# Altium footprint library SMD-SOICxx 1.27mm.PcbLib: 14 footprints
Each footprint in its own frame and in the unit in brackets; x right, y up, seen from the top. Pads: shape width x height; smd on the part's side, far side on the other; paste and mask are expansions set on the pad; w line width, h text height; cw(c..) or ccw(c..) is an arc to the next point about the centre after c.
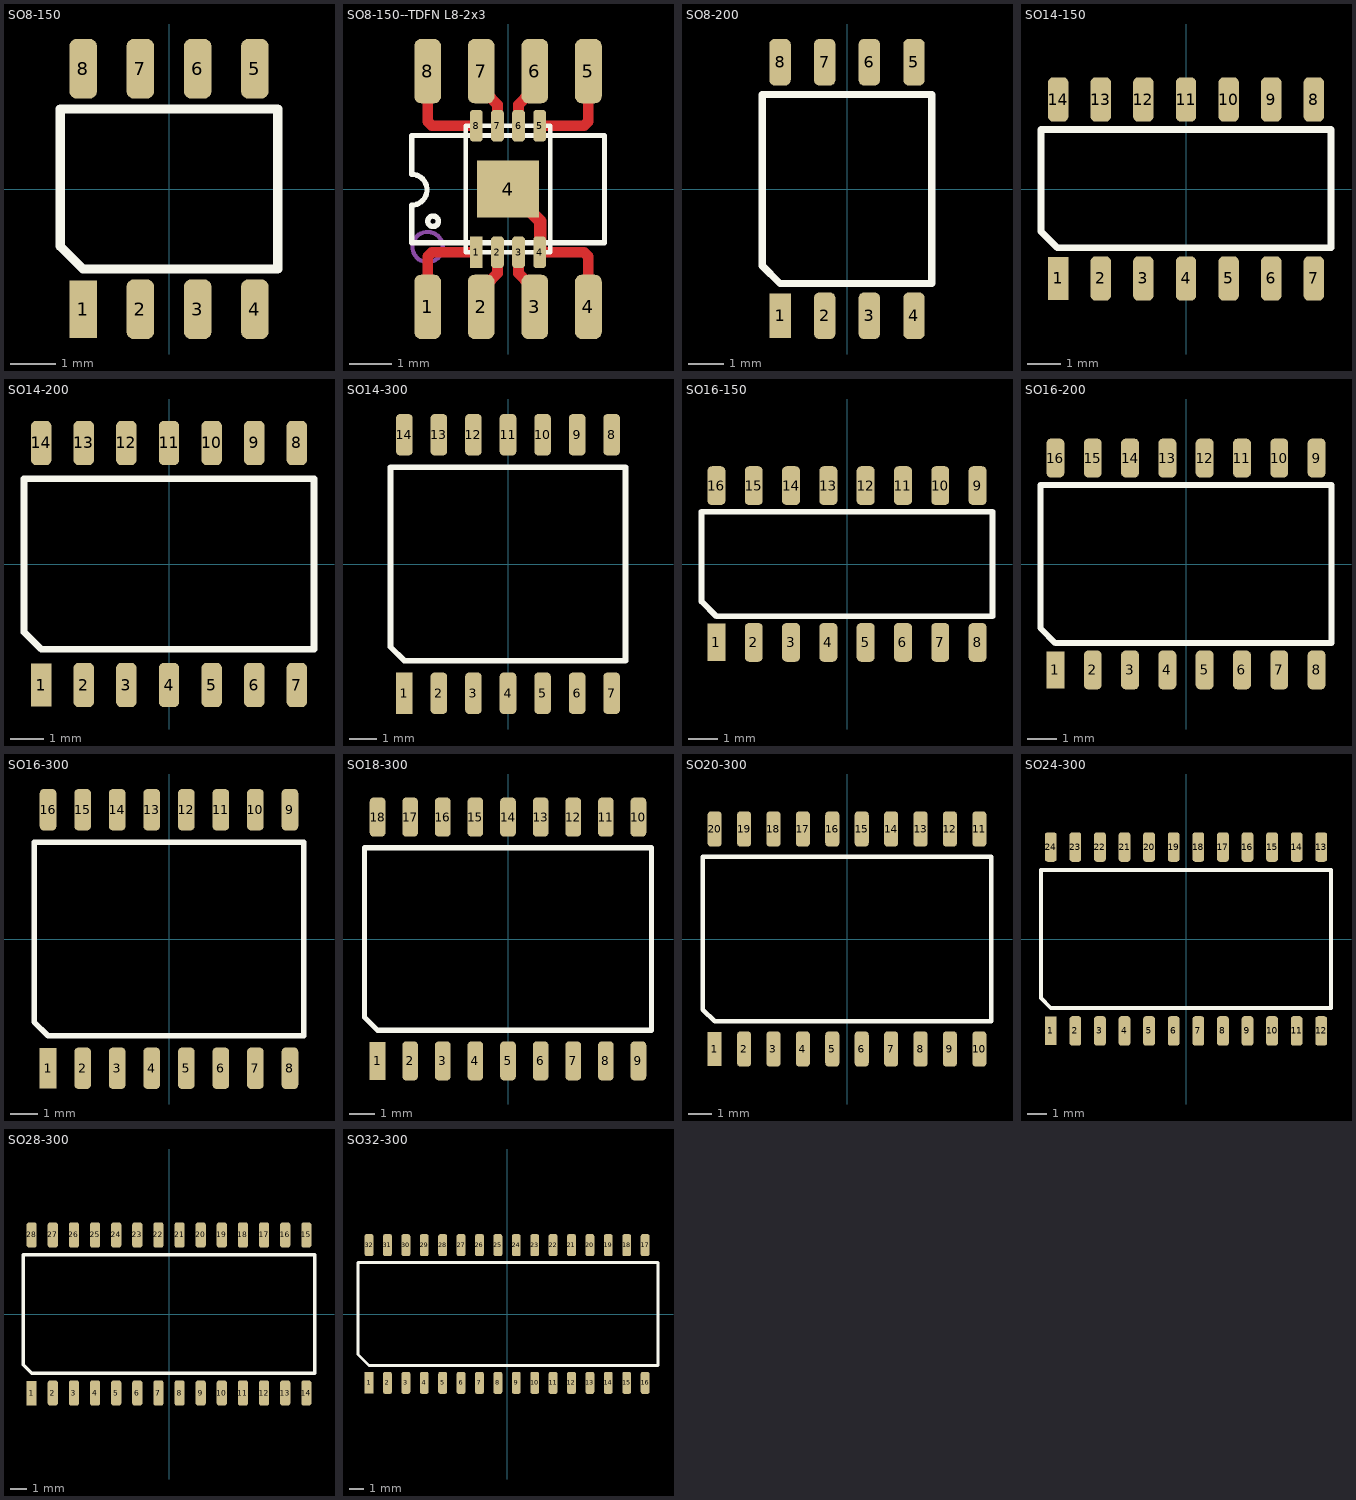
[diagram p0: the footprints below, top view; thin cyan lines are the x and y axes]

## SO8-150 [mil]
pads (8):
  rect 24x50 smd mask+4: 1(-75,-105)
  rrect50% 24x52 smd mask+4: 2(-25,-105) 3(25,-105) 4(75,-105) 5(75,105) 6(25,105) 7(-25,105) 8(-75,105)
Top Overlay:
  lines w8: -95.01,-49.99 -95.01,70 95,70 95,-70 -75,-70 -95.01,-49.99
3D body: height 67, standoff 0, extent -95.01,-122.01 94.99,121.99

## SO8-150--TDFN L8-2x3 [mm]
pads (17):
  rrect50% 0.635x1.524 smd: 1(-1.905,-2.794) 2(-0.635,-2.794) 3(0.635,-2.794) 4(1.905,-2.794) 5(1.905,2.794) 6(0.635,2.794) 7(-0.635,2.794) 8(-1.905,2.794)
  rect 0.3x0.75 smd: 1(-0.75,-1.5)
  rrect50% 0.3x0.75 smd: 2(-0.25,-1.5) 3(0.25,-1.5) 4(0.75,-1.5) 5(0.75,1.5) 6(0.25,1.5) 7(-0.25,1.5) 8(-0.75,1.5)
  rect 1.46x1.36 smd: 4(0,0)
Top Layer:
  lines w0.254: -1.9,-2.2 -1.9,-1.6 -1.8,-1.5 ; -1.9,2.2 -1.9,1.6 -1.8,1.5 ; -1.75,-1.5 -0.75,-1.5 ; -1.75,1.5 -0.75,1.5 ; -0.5,-2.25 -0.25,-2 -0.25,-1.5 ; -0.5,2.25 -0.25,2 -0.25,1.5 ; 0.25,-1.5 0.25,-2 0.5,-2.25 ; 0.25,1.5 0.25,2 0.5,2.25 ; 0.75,-1.5 1.754,-1.5 1.8,-1.5 1.9,-1.6 1.9,-2.2 ; 0.75,1.5 1.754,1.5 1.8,1.5 1.9,1.6 1.9,2.2
  lines w0.3: 0,0 0.762,-0.762 0.762,-1.5
Top Overlay:
  circle w0.127: c-1.776,-0.765 r0.125
  lines w0.1: -1,-1.5 1,-1.5 ; -1,-1.5 -1,1.5 1,1.5 1,-1.5 ; -1,-1.5 1,-1.5
  lines w0.127: -2.286,0.349 cw(c-2.286,-0.017) -2.286,-0.384 -2.286,-1.273 2.286,-1.273 2.286,1.267 -2.286,1.267 -2.286,0.378
Mechanical 13:
  circle w0.1: c-1.905,-1.375 r0.359
3D body: height 0.76, standoff 0, extent -0.75,-1.25 -0.551,-1.05
3D body: height 0.76, standoff 0, extent -1,-1.5 1,1.5
3D body: height 1.7, standoff 0, extent -2.413,-3.099 2.413,3.099

## SO8-200 [mil]
pads (8):
  rect 24x50 smd mask+4: 1(-75,-142)
  rrect50% 24x52 smd mask+4: 2(-25,-142) 3(25,-142) 4(75,-142) 5(75,142) 6(25,142) 7(-25,142) 8(-75,142)
Top Overlay:
  lines w8: -95,-86 -95,106 95,106 95,-106 -75,-106 -95,-86
3D body: height 67, standoff 0, extent -95,-161 95,161

## SO14-150 [mil]
pads (14):
  rect 24x50 smd mask+4: 1(-150,-105)
  rrect50% 24x52 smd mask+4: 2(-100,-105) 3(-50,-105) 4(0,-105) 5(50,-105) 6(100,-105) 7(150,-105) 8(150,105) 9(100,105) 10(50,105) 11(0,105) 12(-50,105) 13(-100,105) 14(-150,105)
Top Overlay:
  lines w8: -170,-50 -170,70 170,70 170,-68.9 -151.1,-68.9 -170,-50
3D body: height 67, standoff 0, extent -170,-122 170,122

## SO14-200 [mil]
pads (14):
  rect 24x50 smd mask+4: 1(-150,-142)
  rrect50% 24x52 smd mask+4: 2(-100,-142) 3(-50,-142) 4(0,-142) 5(50,-142) 6(100,-142) 7(150,-142) 8(150,142) 9(100,142) 10(50,142) 11(0,142) 12(-50,142) 13(-100,142) 14(-150,142)
Top Overlay:
  lines w8: -170,-80 -150,-100 170,-100 170,100 -170,100 -170,-80
3D body: height 67, standoff 0, extent -170.01,-161 169.99,160.99

## SO14-300 [mil]
pads (14):
  rect 24x60 smd: 1(-150,-187)
  rrect50% 24x60 smd: 2(-100,-187) 3(-50,-187) 4(0,-187) 5(50,-187) 6(100,-187) 7(150,-187) 8(150,187) 9(100,187) 10(50,187) 11(0,187) 12(-50,187) 13(-100,187) 14(-150,187)
Top Overlay:
  lines w8: -170,-120 -150,-140 170,-140 170,140 -170,140 -170,-120
3D body: height 67, standoff 0, extent -170,-209.5 170,209.5

## SO16-150 [mil]
pads (16):
  rect 24x50 smd mask+4: 1(-175,-105)
  rrect50% 24x52 smd mask+4: 2(-125,-105) 3(-75,-105) 4(-25,-105) 5(25,-105) 6(75,-105) 7(125,-105) 8(175,-105) 9(175,105) 10(125,105) 11(75,105) 12(25,105) 13(-25,105) 14(-75,105) 15(-125,105) 16(-175,105)
Top Overlay:
  lines w8: -195,-50 -175,-70 195,-70 195,70 -195,70 -195,-50
3D body: height 67, standoff 0, extent -195,-122 195,122

## SO16-200 [mil]
pads (16):
  rect 24x50 smd mask+4: 1(-175,-142)
  rrect50% 24x52 smd mask+4: 2(-125,-142) 3(-75,-142) 4(-25,-142) 5(25,-142) 6(75,-142) 7(125,-142) 8(175,-142) 9(175,142) 10(125,142) 11(75,142) 12(25,142) 13(-25,142) 14(-75,142) 15(-125,142) 16(-175,142)
Top Overlay:
  lines w8: -195,-86 -175,-106 195,-106 195,106 -195,106 -195,-86
3D body: height 67, standoff 0, extent -195,-161 195,161

## SO16-300 [mil]
pads (16):
  rect 24x58 smd mask+4: 1(-175,-187)
  rrect50% 24x60 smd mask+4: 2(-125,-187) 3(-75,-187) 4(-25,-187) 5(25,-187) 6(75,-187) 7(125,-187) 8(175,-187) 9(175,187) 10(125,187) 11(75,187) 12(25,187) 13(-25,187) 14(-75,187) 15(-125,187) 16(-175,187)
Top Overlay:
  lines w8: -195,-120 -175,-140 195,-140 195,140 -195,140 -195,-120
3D body: height 67, standoff 0, extent -195,-209.5 195,209.5

## SO18-300 [mil]
pads (18):
  rect 24x58 smd mask+4: 1(-200,-187)
  rrect50% 24x60 smd mask+4: 2(-150,-187) 3(-100,-187) 4(-50,-187) 5(0,-187) 6(50,-187) 7(100,-187) 8(150,-187) 9(200,-187) 10(200,187) 11(150,187) 12(100,187) 13(50,187) 14(0,187) 15(-50,187) 16(-100,187) 17(-150,187) 18(-200,187)
Top Overlay:
  lines w8: -220,-120 -200,-140 220,-140 220,140 -220,140 -220,-120
3D body: height 67, standoff 0, extent -220,-209.5 220,209.5

## SO20-300 [mil]
pads (20):
  rect 24x58 smd mask+4: 1(-225,-187)
  rrect50% 24x60 smd mask+4: 2(-175,-187) 3(-125,-187) 4(-75,-187) 5(-25,-187) 6(25,-187) 7(75,-187) 8(125,-187) 9(175,-187) 10(225,-187) 11(225,187) 12(175,187) 13(125,187) 14(75,187) 15(25,187) 16(-25,187) 17(-75,187) 18(-125,187) 19(-175,187) 20(-225,187)
Top Overlay:
  lines w8: -245,-120 -245,140 245,140 245,-140 -225,-140 -245,-120
3D body: height 67, standoff 0, extent -245,-209.5 245,209.5

## SO24-300 [mil]
pads (24):
  rect 24x58 smd mask+4: 1(-275,-187)
  rrect50% 24x60 smd mask+4: 2(-225,-187) 3(-175,-187) 4(-125,-187) 5(-75,-187) 6(-25,-187) 7(25,-187) 8(75,-187) 9(125,-187) 10(175,-187) 11(225,-187) 12(275,-187) 13(275,187) 14(225,187) 15(175,187) 16(125,187) 17(75,187) 18(25,187) 19(-25,187) 20(-75,187) 21(-125,187) 22(-175,187) 23(-225,187) 24(-275,187)
Top Overlay:
  lines w8: -295,-120 -295,140 295,140 295,-140 -275,-140 -295,-120
3D body: height 67, standoff 0, extent -295,-209.5 295,209.5

## SO28-300 [mil]
pads (28):
  rect 24x58 smd mask+4: 1(-325,-187)
  rrect50% 24x60 smd mask+4: 2(-275,-187) 3(-225,-187) 4(-175,-187) 5(-125,-187) 6(-75,-187) 7(-25,-187) 8(25,-187) 9(75,-187) 10(125,-187) 11(175,-187) 12(225,-187) 13(275,-187) 14(325,-187) 15(325,187) 16(275,187) 17(225,187) 18(175,187) 19(125,187) 20(75,187) 21(25,187) 22(-25,187) 23(-75,187) 24(-125,187) 25(-175,187) 26(-225,187) 27(-275,187) 28(-325,187)
Top Overlay:
  lines w8: -345,-120 -325,-140 345,-140 345,140 -345,140 -345,-120
3D body: height 67, standoff 0, extent -345,-209.5 345,209.5

## SO32-300 [mil]
pads (32):
  rect 24x58 smd mask+4: 1(-375,-187)
  rrect50% 24x60 smd mask+4: 2(-325,-187) 3(-275,-187) 4(-225,-187) 5(-175,-187) 6(-125,-187) 7(-75,-187) 8(-25,-187) 9(25,-187) 10(75,-187) 11(125,-187) 12(175,-187) 13(225,-187) 14(275,-187) 15(325,-187) 16(375,-187) 17(375,187) 18(325,187) 19(275,187) 20(225,187) 21(175,187) 22(125,187) 23(75,187) 24(25,187) 25(-25,187) 26(-75,187) 27(-125,187) 28(-175,187) 29(-225,187) 30(-275,187) 31(-325,187) 32(-375,187)
Top Overlay:
  lines w8: -405,-110 -405,140 410,140 410,-140 -375,-140 -405,-110
3D body: height 108.95, standoff -1.17, extent -409.25,-202.3 409.25,202.31